# EAGLE library part ROT_ENCODE_2X6 (library myparts_201805)
2X6 mail connector break away
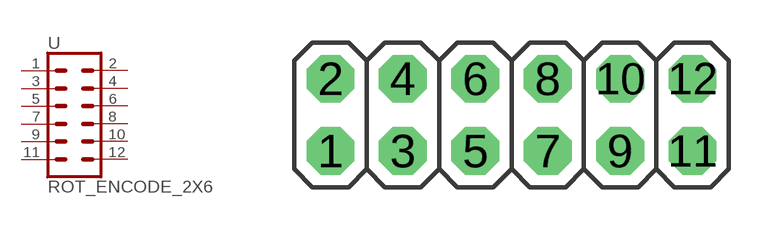
[diagram p1: symbol with the pads of 2X06; footprint 2X06]

Designator prefix -

## ROT_ENCODE_2X6 (AVAILABILITY: adafruit; DESCRIPTION: Angle Connector; MF: Adafruit; MP: 2X6 angle; PACKAGE: break away; PRICE: 1.00)  [2X06]
1  1  pas
2  2  pas
3  3  pas
4  4  pas
5  5  pas
6  6  pas
7  7  pas
8  8  pas
9  9  pas
10  10  pas
11  11  pas
12  12  pas

## Footprint 2X06 (pad centres in mm)
PIN HEADER
drill 1.016 pad 1.676 octagon: 1 -3.81,-1.27; 2 -3.81,1.27; 3 -1.27,-1.27; 4 -1.27,1.27; 5 1.27,-1.27; 6 1.27,1.27; 7 3.81,-1.27; 8 3.81,1.27; 9 6.35,-1.27; 10 6.35,1.27; 11 8.89,-1.27; 12 8.89,1.27